# Altium footprint library SOIC127P780X200-14N.PcbLib: 1 footprints
Each footprint in its own frame and in the unit in brackets; x right, y up, seen from the top. Pads: shape width x height; smd on the part's side, far side on the other; paste and mask are expansions set on the pad; w line width, h text height; cw(c..) or ccw(c..) is an arc to the next point about the centre after c.
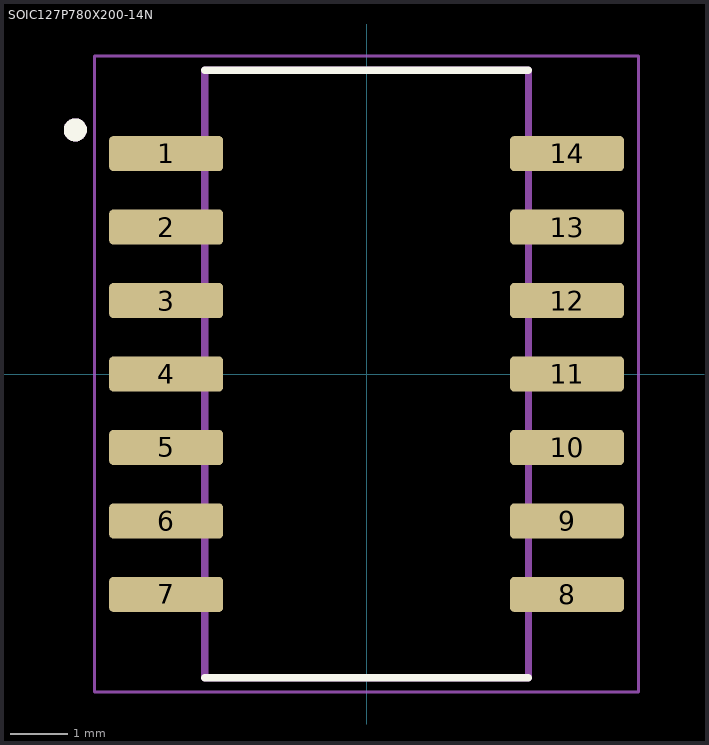
[diagram p0: the footprint, top view; thin cyan lines are the x and y axes]

## SOIC127P780X200-14N [mm]
height 2
pads (14):
  rrect25% 1.97x0.61 smd: 1(-3.465,3.81) 2(-3.465,2.54) 3(-3.465,1.27) 4(-3.465,0) 5(-3.465,-1.27) 6(-3.465,-2.54) 7(-3.465,-3.81) 8(3.465,-3.81) 9(3.465,-2.54) 10(3.465,-1.27) 11(3.465,0) 12(3.465,1.27) 13(3.465,2.54) 14(3.465,3.81)
Top Overlay:
  circle w0.2: c-5.035,4.22 r0.1
  lines w0.127: -2.8,-5.25 2.8,-5.25 ; -2.8,5.25 2.8,5.25
Mechanical 13:
  circle w0.2: c-5.035,4.22 r0.1
  lines w0.127: -2.8,-5.25 2.8,-5.25 2.8,5.25 -2.8,5.25 -2.8,-5.25
Mechanical 15:
  lines w0.05: -4.7,-5.5 4.7,-5.5 4.7,5.5 -4.7,5.5 -4.7,-5.5
3D body "step_temp.STEP": height 2, standoff 0, extent -3.9,-5.1 3.9,5.1